# Altium schematic symbol library Schlib_Wiznet.SchLib: 2 symbols
Pins are listed as number, name and electrical type; pins without a type are passive.

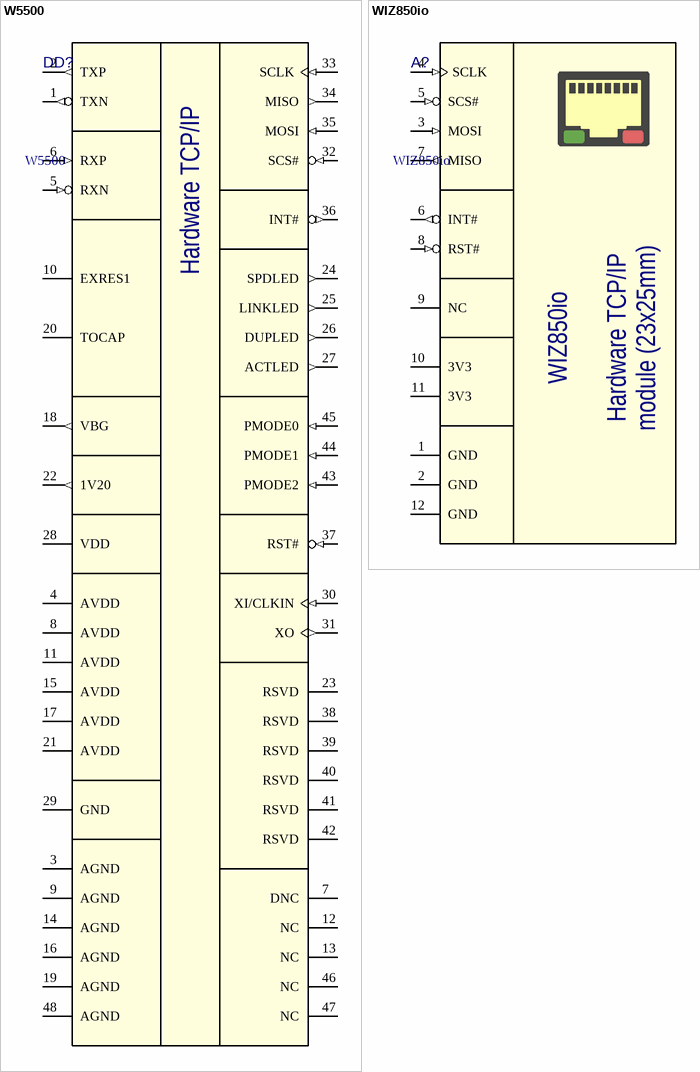
[diagram p0: symbols W5500 to WIZ850io]

## W5500
designator DD?
Hardwired TCP/IP embedded Ethernet controller; Manufacturer: WIZnet; Part Number: W5500; Package: LQFP-64
footprint LQFP-48 (TSQFP, 48-Leads, Body 7,00x7,00mm, Pitch 0,50mm, IPC Medium Density)
pins: 1 TXN (out) "GND", 2 TXP (out) "GND", 3 AGND (power) "GND", 4 AVDD (power) "GND", 5 RXN (in) "GND", 6 RXP (in) "GND", 7 DNC (hiz) "GND", 8 AVDD (power) "GND", 9 AGND (power) "GND", 10 EXRES1 "GND", 11 AVDD (power) "GND", 12 NC (hiz) "GND", 13 NC (hiz) "GND", 14 AGND (power) "GND", 15 AVDD (power) "GND", 16 AGND (power) "GND", 17 AVDD (power) "GND", 18 VBG (out) "GND", 19 AGND (power) "GND", 20 TOCAP "GND", 21 AVDD (power) "GND", 22 1V20 (out) "GND", 23 RSVD (hiz) "GND", 24 SPDLED (out) "GND", 25 LINKLED (out) "GND", 26 DUPLED (out) "GND", 27 ACTLED (out) "GND", 28 VDD (power) "GND", 29 GND (power), 30 XI/CLKIN (in) "GND", 31 XO (out) "GND", 32 SCS# (in) "GND", 33 SCLK (in) "GND", 34 MISO (out) "GND", 35 MOSI (in) "GND", 36 INT# (out) "GND", 37 RST# (in) "GND", 38 RSVD (hiz) "GND", 39 RSVD (hiz) "GND", 40 RSVD (hiz) "GND", 41 RSVD (hiz) "GND", 42 RSVD (hiz) "GND", 43 PMODE2 (in) "GND", 44 PMODE1 (in) "GND", 45 PMODE0 (in) "GND", 46 NC (hiz) "GND", 47 NC (hiz) "GND", 48 AGND (power) "GND"
1 alternate drawing of the same symbol
text: Hardware TCP/IP

## WIZ850io
designator A?
Plugin Network Module on W5500 chip; Manufacturer: WIZnet; Part Number: WIZ850io; Package: Module 23x25x18mm
footprint WIZ850io (Plugin Network Module)
pins: 1 GND (power), 2 GND (power), 3 MOSI (in) "GND", 4 SCLK (in) "GND", 5 SCS# (in) "GND", 6 INT# (out) "GND", 7 MISO (out) "GND", 8 RST# (in) "GND", 9 NC (hiz) "GND", 10 3V3 (power) "GND", 11 3V3 (power) "GND", 12 GND (power)
1 alternate drawing of the same symbol
text: Hardware TCP/IP; module (23x25mm)